# Altium footprint library CONNs.PcbLib: 8 footprints
Each footprint in its own frame and in the unit in brackets; x right, y up, seen from the top. Pads: shape width x height; smd on the part's side, far side on the other; paste and mask are expansions set on the pad; w line width, h text height; cw(c..) or ccw(c..) is an arc to the next point about the centre after c.
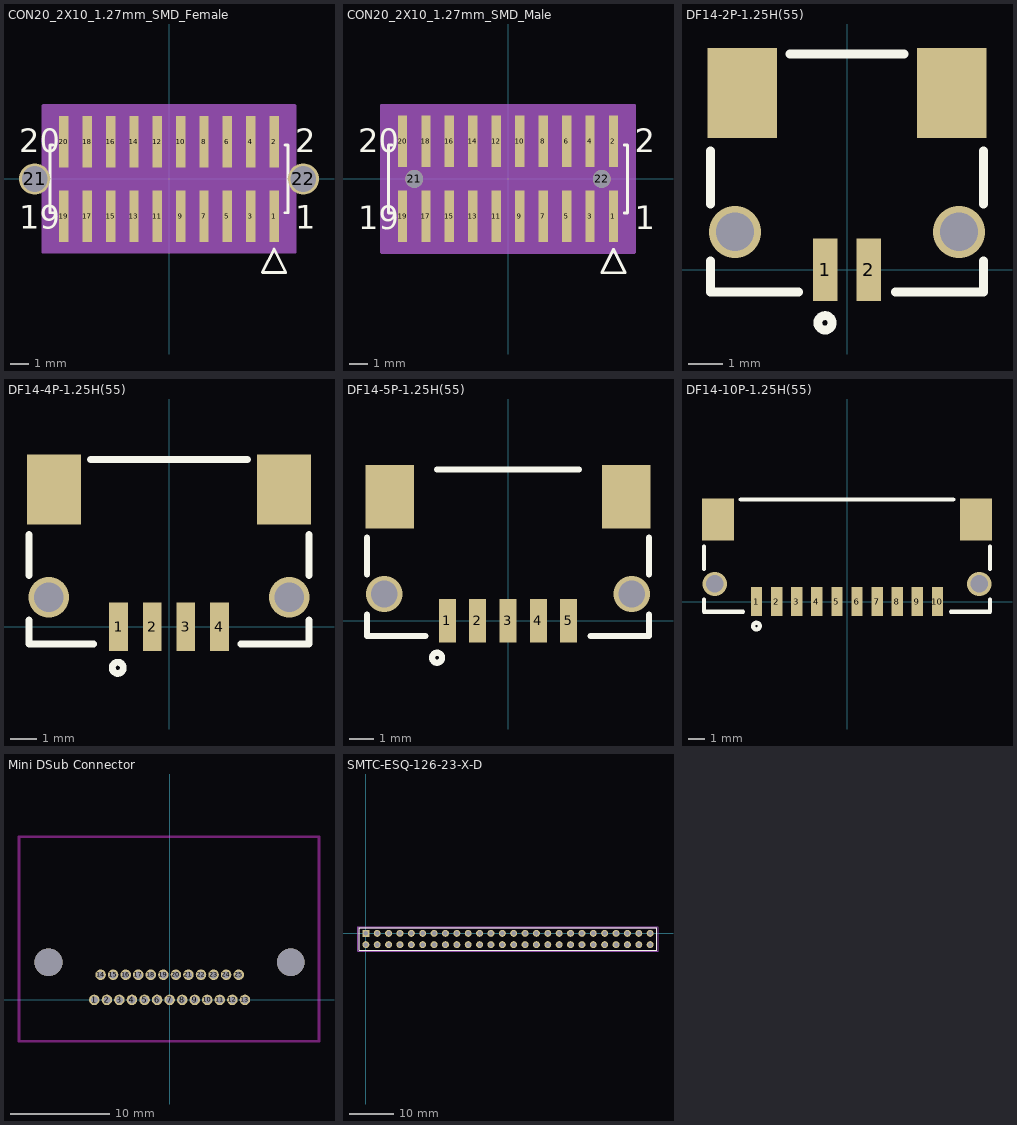
[diagram p0: the footprints below, top view; thin cyan lines are the x and y axes]

## CON20_2X10_1.27mm_SMD_Female [mil] "1.27mm pitch, 20 position female header. SAM9863-ND"
pads (22):
  rect 20x110 smd: 1(225,-80) 2(225,80) 3(175,-80) 4(175,80) 5(125,-80) 6(125,80) 7(75,-80) 8(75,80) 9(25,-80) 10(25,80) 11(-25,-80) 12(-25,80) 13(-75,-80) 14(-75,80) 15(-125,-80) 16(-125,80) 17(-175,-80) 18(-175,80) 19(-225,-80) 20(-225,80)
  round 66.93 / inner round 60 / far side round 38 hole 55.12: 21(-287.6,0) 22(287.6,0)
Top Overlay:
  region: -220,-104.5 -230,-104.5 -230,-119.5 -220,-119.5
  region: 30,-104.5 20,-104.5 20,-119.5 30,-119.5
  lines w6: -248.1,-72.5 -255,-72.5 -255,72.5 -248.1,72.5 ; 248.1,-72.5 255,-72.5 255,72.5 248.1,72.5 ; 200,-200.1 250,-200.1 225,-150.1 200,-200.1
  text "19" at -320,-107 h50
  text "20" at -320,57 h50
  text "1" at 270,-107 h50
  text "2" at 270,57 h50
Mechanical 13:
  lines w1: -250,-67.5 250,-67.5 250,67.5 -250,67.5 -250,-67.5 ; 200,-200.1 250,-200.1 225,-150.1 200,-200.1
  text "19" at -320,-107 h50
  text "20" at -320,57 h50
  text "1" at 270,-107 h50
  text "2" at 270,57 h50
Mechanical 15:
  region: 270,157 -270,157 -270,-157 270,-157
  lines w6: -270,-157 270,-157 270,157 -270,157 -270,-157
3D body "SAM9863-ND - 2X10 Female 50mil SMD v3.step": height 178.58, standoff -49.61, extent -310.03,-81.84 310.05,84.34
3D body: height 10, standoff 0, extent 0,0 10,10

## CON20_2X10_1.27mm_SMD_Male [mil] "1.27mm pitch, 20 position female header. SAM11274-ND"
pads (22):
  rect 20x110 smd: 1(225,-80) 2(225,80) 3(175,-80) 4(175,80) 5(125,-80) 6(125,80) 7(75,-80) 8(75,80) 9(25,-80) 10(25,80) 11(-25,-80) 12(-25,80) 13(-75,-80) 14(-75,80) 15(-125,-80) 16(-125,80) 17(-175,-80) 18(-175,80) 19(-225,-80) 20(-225,80)
  round 38 / inner round 60 / far side round 38 hole 38: 21(-200,0) 22(200,0)
Top Overlay:
  region: -220,-104.5 -230,-104.5 -230,-119.5 -220,-119.5
  region: 30,-104.5 20,-104.5 20,-119.5 30,-119.5
  lines w6: -248.1,-72.5 -255,-72.5 -255,72.5 -248.1,72.5 ; 248.1,-72.5 255,-72.5 255,72.5 248.1,72.5 ; 200,-200.1 250,-200.1 225,-150.1 200,-200.1
  text "19" at -320,-107 h50
  text "20" at -320,57 h50
  text "1" at 270,-107 h50
  text "2" at 270,57 h50
Mechanical 13:
  lines w1: -250,-67.5 250,-67.5 250,67.5 -250,67.5 -250,-67.5 ; 200,-200.1 250,-200.1 225,-150.1 200,-200.1
  text "19" at -320,-107 h50
  text "20" at -320,57 h50
  text "1" at 270,-107 h50
  text "2" at 270,57 h50
Mechanical 15:
  region: 270,157 -270,157 -270,-157 270,-157
  lines w6: -270,-157 270,-157 270,157 -270,157 -270,-157
3D body "SAM11274-ND - 2X10 Male 50mil SMD v1.step": height 264.62, standoff -0.38, extent -249.02,-116.14 250.99,113.86

## DF14-2P-1.25H(55) [mm]
height 2.5
pads (4):
  rect 0.7x1.8 smd: 1(-0.625,0) 2(0.625,0)
  rect 2x2.6 smd: ""(-3.025,5.1) ""(3.025,5.1)
via 3.225,1.1 diameter 1.5 hole 1.1
via -3.225,1.1 diameter 1.5 hole 1.1
Top Overlay:
  circle w0.254: c-0.635,-1.524 r0.207
  lines w0.254: -3.937,0.254 -3.937,-0.635 -1.397,-0.635 ; -3.937,1.905 -3.937,3.429 ; -1.651,6.223 -0.826,6.223 0.826,6.223 1.651,6.223 ; 1.397,-0.635 3.937,-0.635 3.937,0.254 ; 3.937,1.905 3.937,3.429
3D body "DF14A-2P-1.25H v1.step": height 2.5, standoff 0, extent -3.725,-0.475 3.725,6.225

## DF14-4P-1.25H(55) [mm]
height 2.5
pads (6):
  rect 0.7x1.8 smd: 1(-1.875,0) 2(-0.625,0) 3(0.625,0) 4(1.875,0)
  rect 2x2.6 smd: ""(-4.275,5.1) ""(4.275,5.1)
via 4.475,1.1 diameter 1.5 hole 1.1
via -4.475,1.1 diameter 1.5 hole 1.1
Top Overlay:
  circle w0.254: c-1.905,-1.524 r0.207
  lines w0.254: -5.207,0.254 -5.207,-0.635 -2.794,-0.635 ; -5.207,1.905 -5.207,3.429 ; -2.921,6.223 2.921,6.223 ; 2.667,-0.635 5.207,-0.635 5.207,0.254 ; 5.207,1.905 5.207,3.429
3D body "DF14-4P-1.25H v2.step": height 2.5, standoff -0.4, extent -4.95,-0.475 5,6.225

## DF14-5P-1.25H(55) [mm]
height 2.5
pads (7):
  rect 0.7x1.8 smd: 1(-2.5,0) 2(-1.25,0) 3(0,0) 4(1.25,0) 5(2.5,0)
  rect 2x2.6 smd: ""(-4.875,5.1) ""(4.875,5.1)
via 5.1,1.1 diameter 1.5 hole 1.1
via -5.1,1.1 diameter 1.5 hole 1.1
Top Overlay:
  circle w0.254: c-2.921,-1.524 r0.207
  lines w0.254: -5.807,0.254 -5.807,-0.635 -3.394,-0.635 ; -5.807,1.905 -5.807,3.429 ; -2.921,6.223 2.921,6.223 ; 3.394,-0.635 5.807,-0.635 5.807,0.254 ; 5.807,1.905 5.807,3.429
3D body "DF14-5P-1.25H v1.step": height 2.3, standoff -0.8, extent -5.6,-0.5 5.6,6.2

## DF14-10P-1.25H(55) [mm]
height 2.5
pads (12):
  rect 0.7x1.8 smd: 1(-5.625,0) 2(-4.375,0) 3(-3.125,0) 4(-1.875,0) 5(-0.625,0) 6(0.625,0) 7(1.875,0) 8(3.125,0) 9(4.375,0) 10(5.625,0)
  rect 2x2.6 smd: ""(-8.025,5.1) ""(8.025,5.1)
via -8.225,1.1 diameter 1.5 hole 1.1
via 8.225,1.1 diameter 1.5 hole 1.1
Top Overlay:
  circle w0.254: c-5.625,-1.524 r0.207
  lines w0.254: -8.89,0.127 -8.89,-0.635 -6.477,-0.635 ; -8.89,2.032 -8.89,3.429 ; -6.604,6.35 6.604,6.35 ; 6.477,-0.635 8.89,-0.635 8.89,0.127 8.89,0 8.89,-0.381 ; 8.89,2.032 8.89,3.429
3D body "DF14A-10P-1.25H v2.step": height 2.49, standoff -0.01, extent -8.725,-0.5 8.725,6.2

## Mini DSub Connector [mil]
pads (25):
  round 42 hole 28: 1(-300,0) 2(-250,0) 3(-200,0) 4(-150,0) 5(-100,0) 6(-50,0) 7(0,0) 8(50,0) 9(100,0) 10(150,0) 11(200,0) 12(250,0) 13(300,0) 14(-275,100) 15(-225,100) 16(-175,100) 17(-125,100) 18(-75,100) 19(-25,100) 20(25,100) 21(75,100) 22(125,100) 23(175,100) 24(225,100) 25(275,100)
via -482.5,150 diameter 110 hole 110
via 482.5,150 diameter 110 hole 110
Top Layer keep-out:
  lines w10: -600,-165 -600,650 595,650 595,-165 -600,-165

## SMTC-ESQ-126-23-X-D [mm] "Elevated Socket, 2x26 Pins, Vertical, 2.54mm Pitch, Female"
height 13.843
pads (52):
  rect 1.55x1.55 hole 1.02: 1(0,0)
  round 1.55 hole 1.02: 2(0,-2.54) 3(2.54,0) 4(2.54,-2.54) 5(5.08,0) 6(5.08,-2.54) 7(7.62,0) 8(7.62,-2.54) 9(10.16,0) 10(10.16,-2.54) 11(12.7,0) 12(12.7,-2.54) 13(15.24,0) 14(15.24,-2.54) 15(17.78,0) 16(17.78,-2.54) 17(20.32,0) 18(20.32,-2.54) 19(22.86,0) 20(22.86,-2.54) 21(25.4,0) 22(25.4,-2.54) 23(27.94,0) 24(27.94,-2.54) 25(30.48,0) 26(30.48,-2.54) 27(33.02,0) 28(33.02,-2.54) 29(35.56,0) 30(35.56,-2.54) 31(38.1,0) 32(38.1,-2.54) 33(40.64,0) 34(40.64,-2.54) 35(43.18,0) 36(43.18,-2.54) 37(45.72,0) 38(45.72,-2.54) 39(48.26,0) 40(48.26,-2.54) 41(50.8,0) 42(50.8,-2.54) 43(53.34,0) 44(53.34,-2.54) 45(55.88,0) 46(55.88,-2.54) 47(58.42,0) 48(58.42,-2.54) 49(60.96,0) 50(60.96,-2.54) 51(63.5,0) 52(63.5,-2.54)
Top Overlay:
  lines w0.2: -1.525,-3.745 65.025,-3.745 65.025,1.205 -1.525,1.205 -1.525,-3.745
Mechanical 13:
  lines w0.1: -1.525,-3.745 -1.525,1.205 65.025,1.205 65.025,-3.745 -1.525,-3.745
Mechanical 15:
  lines w0.05: -1.75,-3.97 65.25,-3.97 65.25,1.43 -1.75,1.43 -1.75,-3.97
3D body "ESQ-126-23-X-D.step": height 13.84, standoff -4.83, extent -1.525,-3.81 65.023,1.27